# Altium integrated library gecko3-user.IntLib: 46 symbols
Pins are listed as number, name and electrical type; pins without a type are passive.

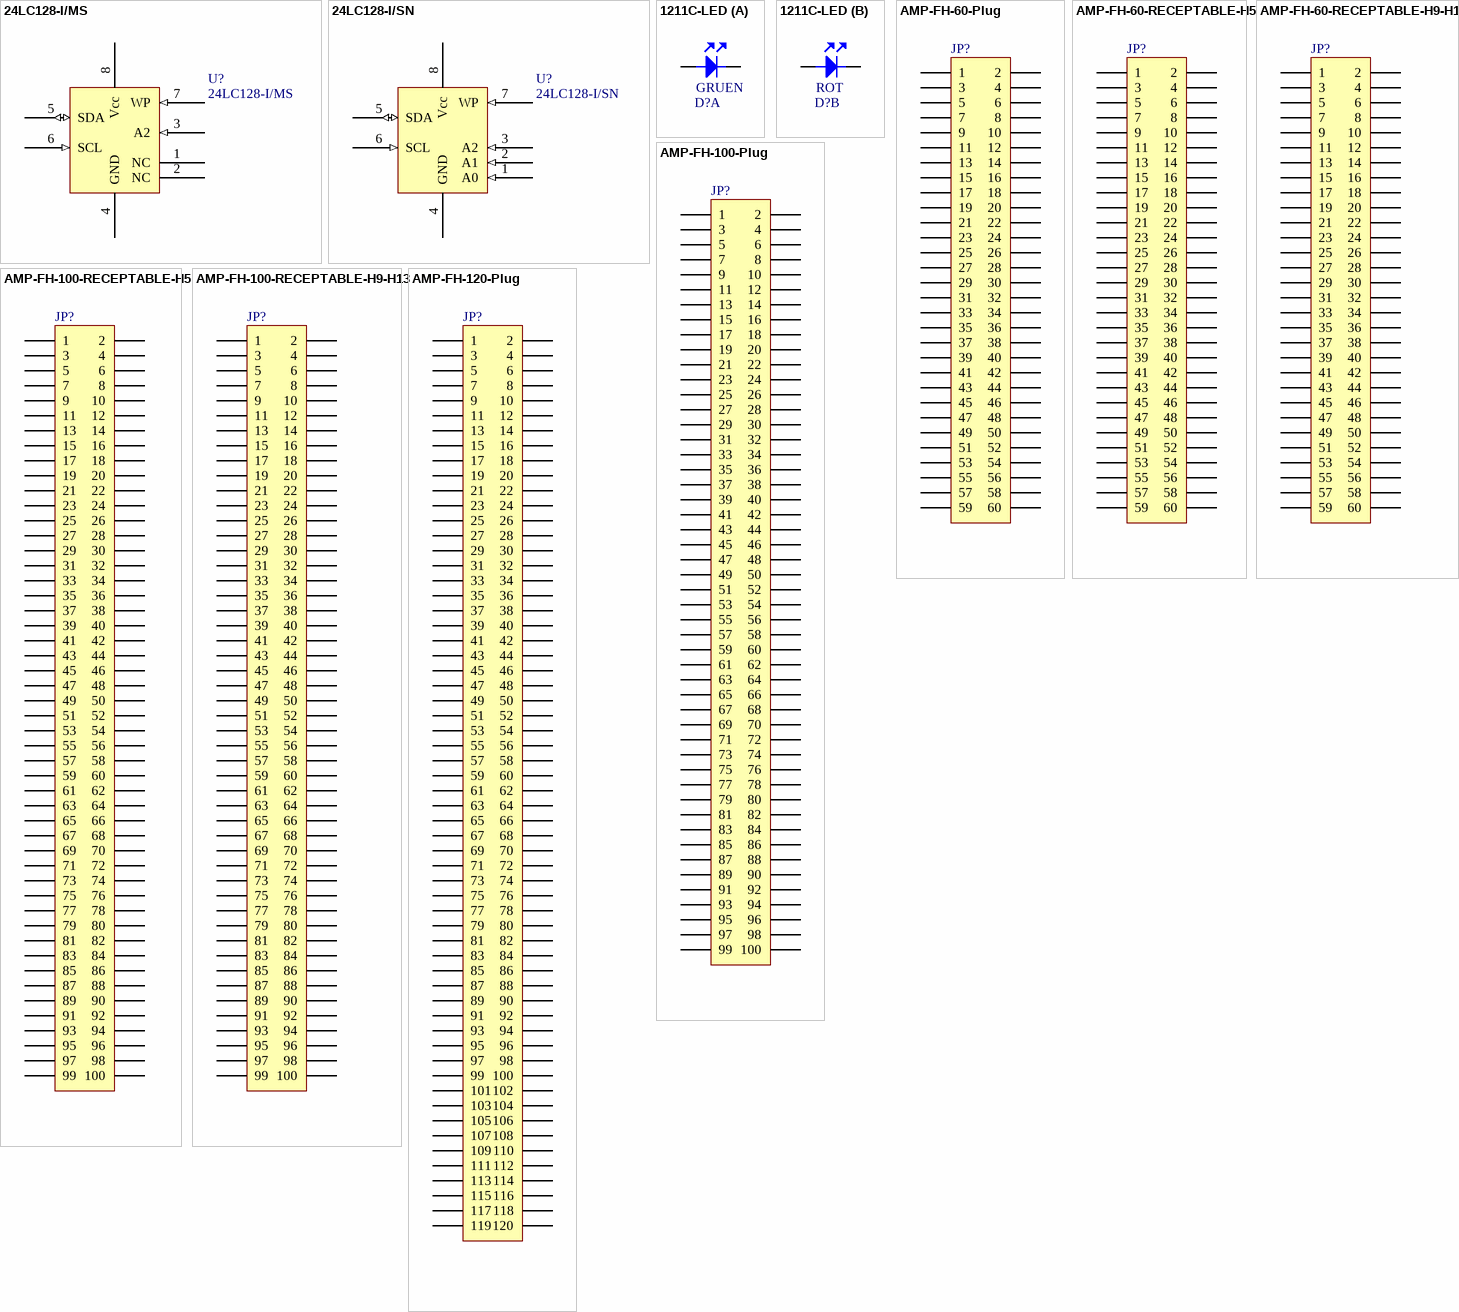
[diagram p0: symbols 24LC128-I/MS to AMP-FH-120-Plug]

## 24LC128-I/MS
designator U?
Value: 24LC128-I/MS
footprint TSSO3X5-G8/X.45
pins: 1 NC, 2 NC, 3 A2 (in), 4 GND (power), 5 SDA (io), 6 SCL (in), 7 WP (in), 8 Vcc (power)

## 24LC128-I/SN
designator U?
Value: 24LC128-I/SN
footprint SO-G8
pins: 1 A0 (in), 2 A1 (in), 3 A2 (in), 4 GND (power), 5 SDA (io), 6 SCL (in), 7 WP (in), 8 Vcc (power)

## 1211C-LED
designator D?
Stanley 1211C Bi-Color Ultra Compact SMT LED; Value: 1211C
footprint stan-led4 (Stanley Duo LED, SMD)
part A pins: 3 A, 4 K
part B pins: 1 A, 2 K
part A text: GRUEN
part B text: ROT

## AMP-FH-60-Plug
designator JP?
AMP Free Height System, 0.8mm, 60 Pin, Plug
signal-integrity model Model Name (Model Description)
footprint amp_FH_.8mm_60pin_plug (AMP Free Height System, 0.8mm, 60 Pin, all Heights, Plug)
pins: 1, 2, 3, 4, 5, 6, 7, 8, 9, 10, 11, 12, 13, 14, 15, 16, 17, 18, 19, 20, 21, 22, 23, 24, 25, 26, 27, 28, 29, 30, 31, 32, 33, 34, 35, 36, 37, 38, 39, 40, 41, 42, 43, 44, 45, 46, 47, 48, 49, 50, 51, 52, 53, 54, 55, 56, 57, 58, 59, 60

## AMP-FH-60-RECEPTABLE-H5
designator JP?
AMP Free Height System, 0.8mm, 60 Pin, 5mm Height, Receptable
signal-integrity model Model Name (Model Description)
footprint amp_FH_.8mm_60pin_r_H5 (AMP Free Height System, 0.8mm, 100 Pin, 5mm Heigth, Receptacle)
pins: 1, 2, 3, 4, 5, 6, 7, 8, 9, 10, 11, 12, 13, 14, 15, 16, 17, 18, 19, 20, 21, 22, 23, 24, 25, 26, 27, 28, 29, 30, 31, 32, 33, 34, 35, 36, 37, 38, 39, 40, 41, 42, 43, 44, 45, 46, 47, 48, 49, 50, 51, 52, 53, 54, 55, 56, 57, 58, 59, 60

## AMP-FH-60-RECEPTABLE-H9-H13
designator JP?
AMP Free Height System, 0.8mm, 60 Pin, 9 or 13mm Height, Receptable
signal-integrity model Model Name (Model Description)
footprint amp_FH_.8mm_60pin_r_H9_H13 (Height System, 0.8mm, 60 Pin, 9 or 13mm Heigth, Receptacle)
pins: 1, 2, 3, 4, 5, 6, 7, 8, 9, 10, 11, 12, 13, 14, 15, 16, 17, 18, 19, 20, 21, 22, 23, 24, 25, 26, 27, 28, 29, 30, 31, 32, 33, 34, 35, 36, 37, 38, 39, 40, 41, 42, 43, 44, 45, 46, 47, 48, 49, 50, 51, 52, 53, 54, 55, 56, 57, 58, 59, 60

## AMP-FH-100-Plug
designator JP?
AMP Free Height System, 0.8mm, 100 Pin, Plug
signal-integrity model Model Name (Model Description)
footprint amp_FH_.8mm_100pin_plug (AMP Free Height System, 0.8mm, 100 Pin, all Heights, Plug)
pins: 1, 2, 3, 4, 5, 6, 7, 8, 9, 10, 11, 12, 13, 14, 15, 16, 17, 18, 19, 20, 21, 22, 23, 24, 25, 26, 27, 28, 29, 30, 31, 32, 33, 34, 35, 36, 37, 38, 39, 40, 41, 42, 43, 44, 45, 46, 47, 48, 49, 50, 51, 52, 53, 54, 55, 56, 57, 58, 59, 60, 61, 62, 63, 64, 65, 66, 67, 68, 69, 70, 71, 72, 73, 74, 75, 76, 77, 78, 79, 80, 81, 82, 83, 84, 85, 86, 87, 88, 89, 90, 91, 92, 93, 94, 95, 96, 97, 98, 99, 100

## AMP-FH-100-RECEPTABLE-H5
designator JP?
AMP Free Height System, 0.8mm, 100 Pin, 5mm Height, Receptable
signal-integrity model Model Name (Model Description)
footprint amp_FH_.8mm_100pin_r_H5 (AMP Free Height System, 0.8mm, 100 Pin, 5mm Heigth, Receptacle)
pins: 1, 2, 3, 4, 5, 6, 7, 8, 9, 10, 11, 12, 13, 14, 15, 16, 17, 18, 19, 20, 21, 22, 23, 24, 25, 26, 27, 28, 29, 30, 31, 32, 33, 34, 35, 36, 37, 38, 39, 40, 41, 42, 43, 44, 45, 46, 47, 48, 49, 50, 51, 52, 53, 54, 55, 56, 57, 58, 59, 60, 61, 62, 63, 64, 65, 66, 67, 68, 69, 70, 71, 72, 73, 74, 75, 76, 77, 78, 79, 80, 81, 82, 83, 84, 85, 86, 87, 88, 89, 90, 91, 92, 93, 94, 95, 96, 97, 98, 99, 100

## AMP-FH-100-RECEPTABLE-H9-H13
designator JP?
AMP Free Height System, 0.8mm, 100 Pin, 9 or 13mm Height, Receptable
signal-integrity model Model Name (Model Description)
footprint amp_FH_.8mm_100pin_r_H9_H13 (AMP Free Height System, 0.8mm, 100 Pin, 9 or 13mm Heigth, Receptacle)
pins: 1, 2, 3, 4, 5, 6, 7, 8, 9, 10, 11, 12, 13, 14, 15, 16, 17, 18, 19, 20, 21, 22, 23, 24, 25, 26, 27, 28, 29, 30, 31, 32, 33, 34, 35, 36, 37, 38, 39, 40, 41, 42, 43, 44, 45, 46, 47, 48, 49, 50, 51, 52, 53, 54, 55, 56, 57, 58, 59, 60, 61, 62, 63, 64, 65, 66, 67, 68, 69, 70, 71, 72, 73, 74, 75, 76, 77, 78, 79, 80, 81, 82, 83, 84, 85, 86, 87, 88, 89, 90, 91, 92, 93, 94, 95, 96, 97, 98, 99, 100

## AMP-FH-120-Plug
designator JP?
AMP Free Height System, 0.8mm, 120 Pin, Plug
signal-integrity model Model Name (Model Description)
footprint amp_FH_.8mm_120pin_plug (AMP Free Height System, 0.8mm, 100 Pin, all Heights, Plug)
pins: 1, 2, 3, 4, 5, 6, 7, 8, 9, 10, 11, 12, 13, 14, 15, 16, 17, 18, 19, 20, 21, 22, 23, 24, 25, 26, 27, 28, 29, 30, 31, 32, 33, 34, 35, 36, 37, 38, 39, 40, 41, 42, 43, 44, 45, 46, 47, 48, 49, 50, 51, 52, 53, 54, 55, 56, 57, 58, 59, 60, 61, 62, 63, 64, 65, 66, 67, 68, 69, 70, 71, 72, 73, 74, 75, 76, 77, 78, 79, 80, 81, 82, 83, 84, 85, 86, 87, 88, 89, 90, 91, 92, 93, 94, 95, 96, 97, 98, 99, 100, 101, 102, 103, 104, 105, 106, 107, 108, 109, 110, 111, 112, 113, 114, 115, 116, 117, 118, 119, 120

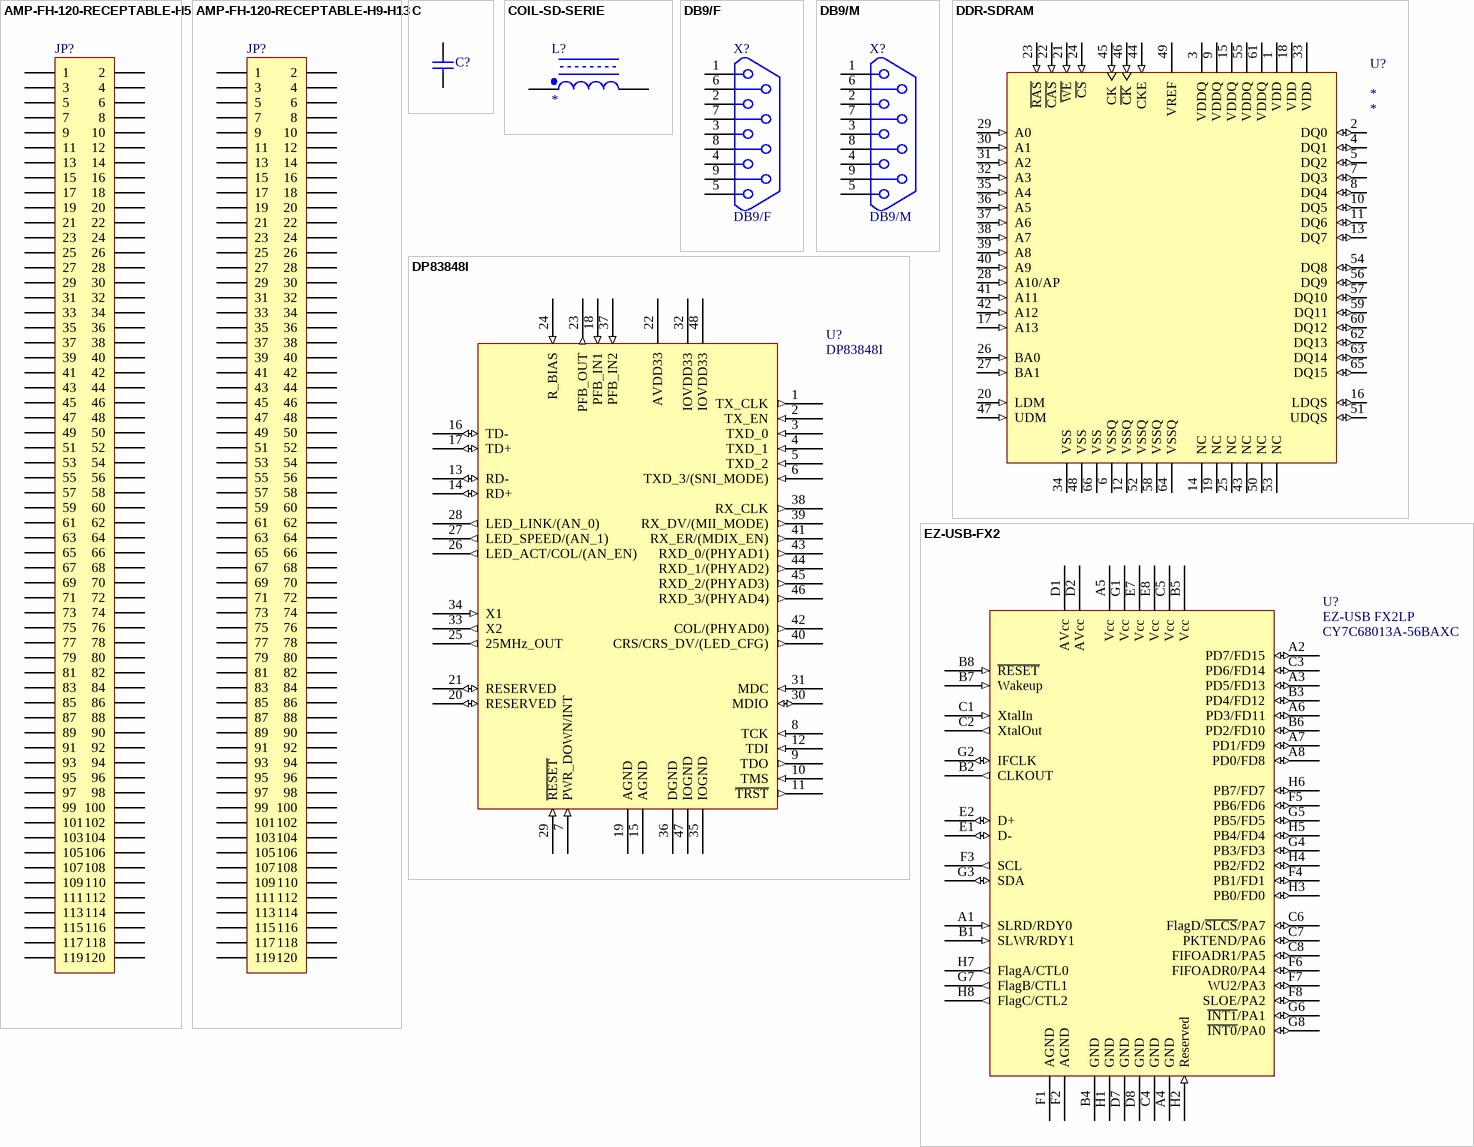
[diagram p1: symbols AMP-FH-120-RECEPTABLE-H5 to EZ-USB-FX2]

## AMP-FH-120-RECEPTABLE-H5
designator JP?
AMP Free Height System, 0.8mm, 120 Pin, 5mm Height, Receptable
signal-integrity model Model Name (Model Description)
footprint amp_FH_.8mm_120pin_r_H5 (AMP Free Height System, 0.8mm, 120 Pin, 5mm Heigth, Receptacle)
pins: 1, 2, 3, 4, 5, 6, 7, 8, 9, 10, 11, 12, 13, 14, 15, 16, 17, 18, 19, 20, 21, 22, 23, 24, 25, 26, 27, 28, 29, 30, 31, 32, 33, 34, 35, 36, 37, 38, 39, 40, 41, 42, 43, 44, 45, 46, 47, 48, 49, 50, 51, 52, 53, 54, 55, 56, 57, 58, 59, 60, 61, 62, 63, 64, 65, 66, 67, 68, 69, 70, 71, 72, 73, 74, 75, 76, 77, 78, 79, 80, 81, 82, 83, 84, 85, 86, 87, 88, 89, 90, 91, 92, 93, 94, 95, 96, 97, 98, 99, 100, 101, 102, 103, 104, 105, 106, 107, 108, 109, 110, 111, 112, 113, 114, 115, 116, 117, 118, 119, 120

## AMP-FH-120-RECEPTABLE-H9-H13
designator JP?
AMP Free Height System, 0.8mm, 120 Pin, 9 or 13mm Height, Receptable
signal-integrity model Model Name (Model Description)
footprint amp_FH_.8mm_120pin_r_H9_H13 (AMP Free Height System, 0.8mm, 120 Pin, 9 or 13mm Heigth, Receptacle)
pins: 1, 2, 3, 4, 5, 6, 7, 8, 9, 10, 11, 12, 13, 14, 15, 16, 17, 18, 19, 20, 21, 22, 23, 24, 25, 26, 27, 28, 29, 30, 31, 32, 33, 34, 35, 36, 37, 38, 39, 40, 41, 42, 43, 44, 45, 46, 47, 48, 49, 50, 51, 52, 53, 54, 55, 56, 57, 58, 59, 60, 61, 62, 63, 64, 65, 66, 67, 68, 69, 70, 71, 72, 73, 74, 75, 76, 77, 78, 79, 80, 81, 82, 83, 84, 85, 86, 87, 88, 89, 90, 91, 92, 93, 94, 95, 96, 97, 98, 99, 100, 101, 102, 103, 104, 105, 106, 107, 108, 109, 110, 111, 112, 113, 114, 115, 116, 117, 118, 119, 120

## C
designator C?
footprint c-r5 (Condensator spacing 5mm)
pins: 1, 2

## CC License
designator ?
footprint CC-License

## COIL-SD-SERIE
designator L?, comment SD*  (value not drawn)
SD Series Coils from Coiltronics; Value: *
footprint coil-sd-serie (SD Series Coils from Coiltronics)
pins: 1, 2

## DB9/F
designator X?
footprint DSUB9RA/F (DB9 female connector)
pins: 1, 2, 3, 4, 5, 6, 7, 8, 9

## DB9/M
designator X?
footprint DB9RA/M
pins: 1, 2, 3, 4, 5, 6, 7, 8, 9

## DDR-SDRAM
designator U?
general model for ddr sdram's; Value: *; vendor: *
footprint TSOP66
signal-integrity model micron
pins: 1 VDD (power), 2 DQ0 (io), 3 VDDQ (power), 4 DQ1 (io), 5 DQ2 (io), 6 VSSQ (power), 7 DQ3 (io), 8 DQ4 (io), 9 VDDQ (power), 10 DQ5 (io), 11 DQ6 (io), 12 VSSQ (power), 13 DQ7 (io), 14 NC, 15 VDDQ (power), 16 LDQS (io), 17 A13 (in), 18 VDD (power), 19 NC, 20 LDM (in), 21 ~{WE} (in), 22 ~{CAS} (in), 23 ~{RAS} (in), 24 ~{CS} (in), 25 NC, 26 BA0 (in), 27 BA1 (in), 28 A10/AP (in), 29 A0 (in), 30 A1 (in), 31 A2 (in), 32 A3 (in), 33 VDD (power), 34 VSS (power), 35 A4 (in), 36 A5 (in), 37 A6 (in), 38 A7 (in), 39 A8 (in), 40 A9 (in), 41 A11 (in), 42 A12 (in), 43 NC, 44 CKE (in), 45 CK (in), 46 ~{CK} (in), 47 UDM (in), 48 VSS (power), 49 VREF (power), 50 NC, 51 UDQS (io), 52 VSSQ (power), 53 NC, 54 DQ8 (io), 55 VDDQ (power), 56 DQ9 (io), 57 DQ10 (io), 58 VSSQ (power), 59 DQ11 (io), 60 DQ12 (io), 61 VDDQ (power), 62 DQ13 (io), 63 DQ14 (io), 64 VSSQ (power), 65 DQ15 (io), 66 VSS (power)

## DP83848I
designator U?  value DP83848I
Single Port 10/100 Mb/s Ethernet Physical Layer Transceiver
footprint F-QFP7X7-G48/N
signal-integrity model Model Name (Model Description)
pins: 1 TX_CLK (out), 2 TX_EN (in), 3 TXD_0 (in), 4 TXD_1 (in), 5 TXD_2 (in), 6 TXD_3/(SNI_MODE) (in), 7 PWR_DOWN/INT (in), 8 TCK (in), 9 TDO (out), 10 TMS (in), 11 ~{TRST} (out), 12 TDI (in), 13 RD- (io), 14 RD+ (io), 15 AGND (power), 16 TD- (io), 17 TD+ (io), 18 PFB_IN1 (in), 19 AGND (power), 20 RESERVED (io), 21 RESERVED (io), 22 AVDD33 (power), 23 PFB_OUT (out), 24 R_BIAS (in), 25 25MHz_OUT (out), 26 LED_ACT/COL/(AN_EN) (out), 27 LED_SPEED/(AN_1) (out), 28 LED_LINK/(AN_0) (out), 29 ~{RESET} (in), 30 MDIO (io), 31 MDC (in), 32 IOVDD33 (power), 33 X2 (out), 34 X1 (in), 35 IOGND (power), 36 DGND (power), 37 PFB_IN2 (in), 38 RX_CLK (out), 39 RX_DV/(MII_MODE) (out), 40 CRS/CRS_DV/(LED_CFG) (out), 41 RX_ER/(MDIX_EN) (out), 42 COL/(PHYAD0) (out), 43 RXD_0/(PHYAD1) (out), 44 RXD_1/(PHYAD2) (out), 45 RXD_2/(PHYAD3) (out), 46 RXD_3/(PHYAD4) (out), 47 IOGND (power), 48 IOVDD33 (power)

## EZ-USB-FX2
designator U?, comment EZ-USB FX2LP  value CY7C68013A-56BAXC
footprint BGA5x5
pins: A1 SLRD/RDY0 (in), A2 PD7/FD15 (io), A3 PD5/FD13 (io), A4 GND (power), A5 Vcc (power), A6 PD3/FD11 (io), A7 PD1/FD9 (io), A8 PD0/FD8 (io), B1 SLWR/RDY1 (in), B2 CLKOUT (out), B3 PD4/FD12 (io), B4 GND (power), B5 Vcc (power), B6 PD2/FD10 (io), B7 Wakeup (in), B8 ~{RESET} (in), C1 XtalIn (in), C2 XtalOut (out), C3 PD6/FD14 (io), C4 GND (power), C5 Vcc (power), C6 FlagD/~{SLCS}/PA7 (io), C7 PKTEND/PA6 (io), C8 FIFOADR1/PA5 (io), D1 AVcc (power), D2 AVcc (power), D7 GND (power), D8 GND (power), E1 D- (io), E2 D+ (io), E7 Vcc (power), E8 Vcc (power), F1 AGND (power), F2 AGND (power), F3 SCL (out), F4 PB1/FD1 (io), F5 PB6/FD6 (io), F6 FIFOADR0/PA4 (io), F7 WU2/PA3 (io), F8 SLOE/PA2 (io), G1 Vcc (power), G2 IFCLK (io), G3 SDA (io), G4 PB3/FD3 (io), G5 PB5/FD5 (io), G6 ~{INT1}/PA1 (io), G7 FlagB/CTL1 (out), G8 ~{INT0}/PA0 (io), H1 GND (power), H2 Reserved (in), H3 PB0/FD0 (io), H4 PB2/FD2 (io), H5 PB4/FD4 (io), H6 PB7/FD7 (io), H7 FlagA/CTL0 (out), H8 FlagC/CTL2 (out)

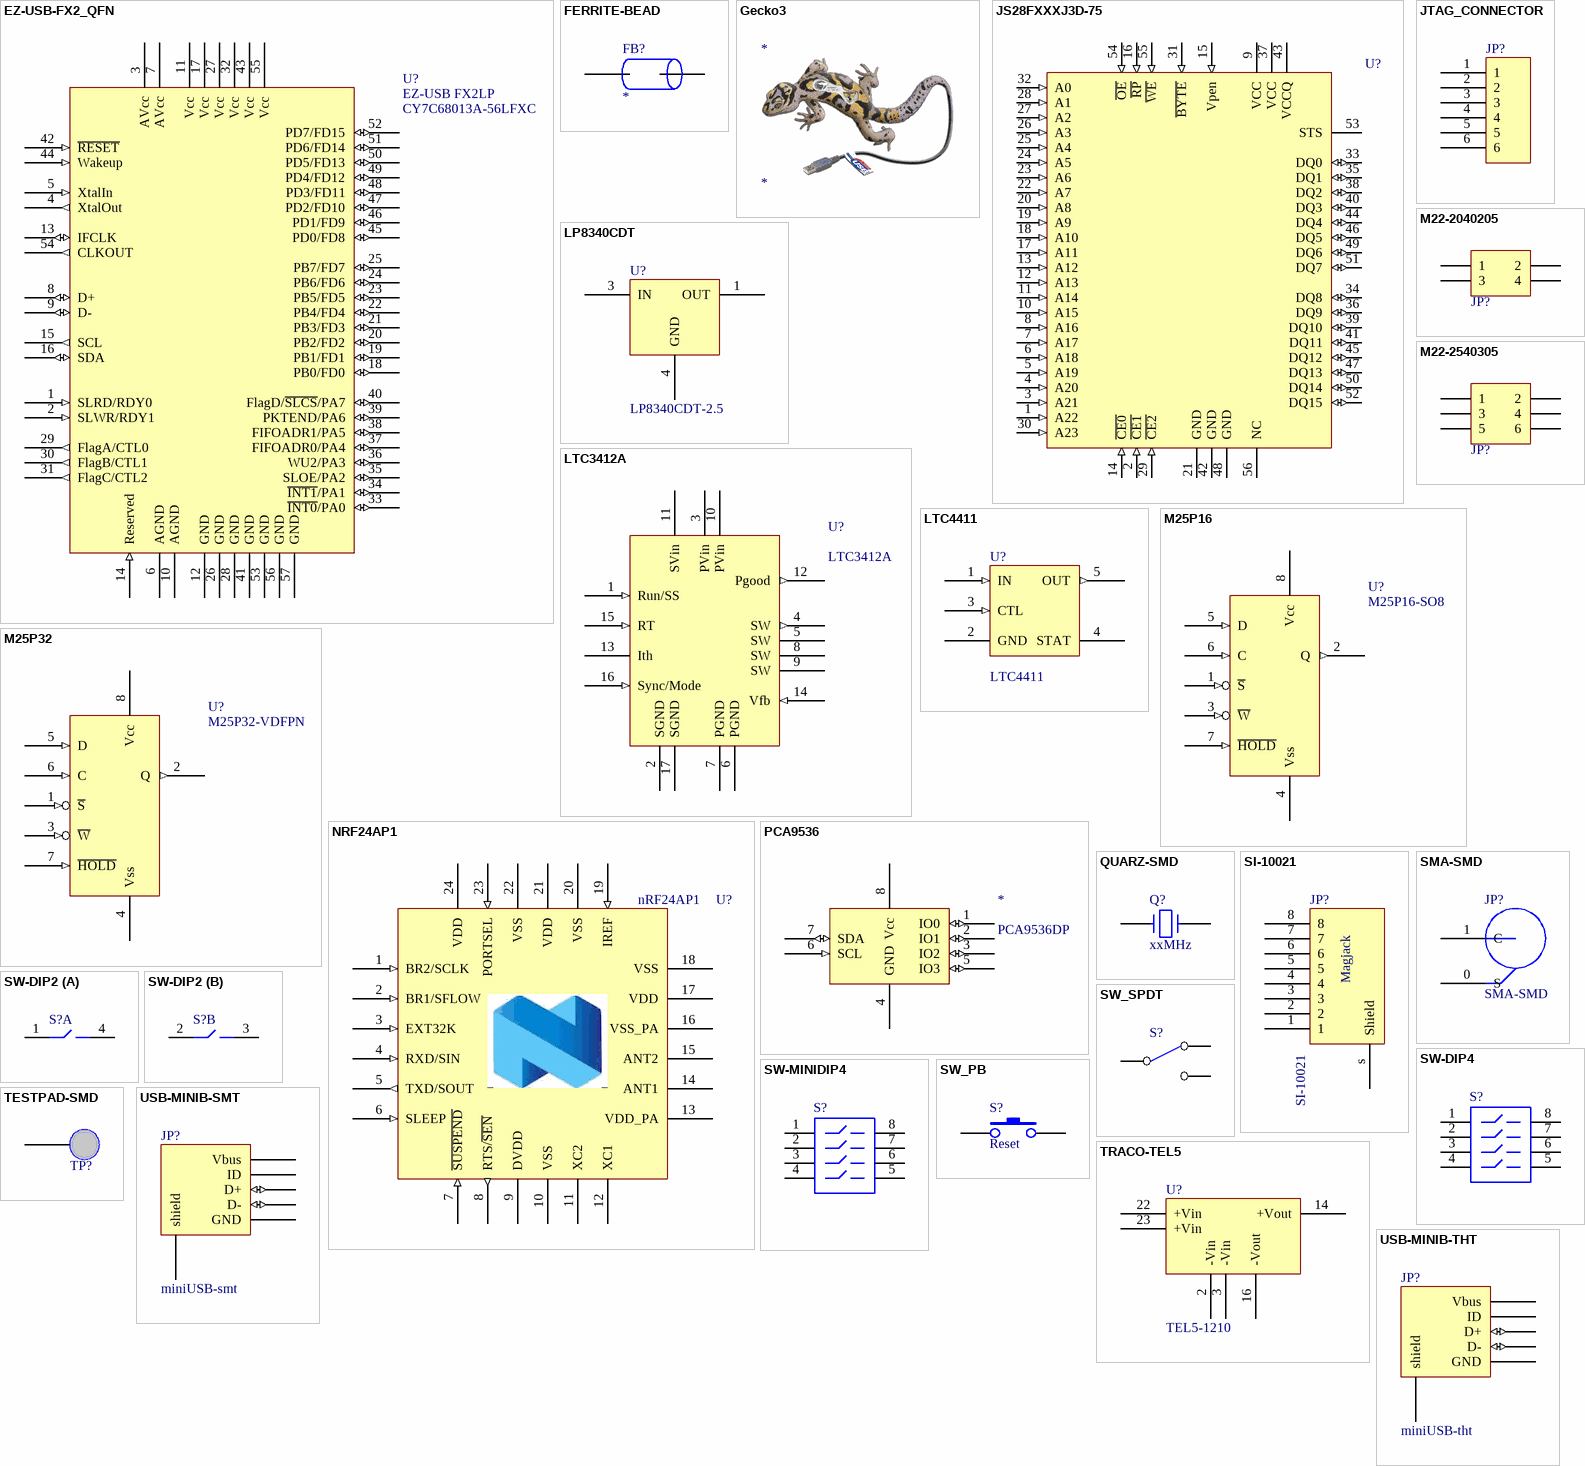
[diagram p2: symbols EZ-USB-FX2_QFN to USB-MINIB-THT]

## EZ-USB-FX2_QFN
designator U?, comment EZ-USB FX2LP  value CY7C68013A-56LFXC
footprint QFN8x8
pins: 1 SLRD/RDY0 (in), 2 SLWR/RDY1 (in), 3 AVcc (power), 4 XtalOut (out), 5 XtalIn (in), 6 AGND (power), 7 AVcc (power), 8 D+ (io), 9 D- (io), 10 AGND (power), 11 Vcc (power), 12 GND (power), 13 IFCLK (io), 14 Reserved (in), 15 SCL (out), 16 SDA (io), 17 Vcc (power), 18 PB0/FD0 (io), 19 PB1/FD1 (io), 20 PB2/FD2 (io), 21 PB3/FD3 (io), 22 PB4/FD4 (io), 23 PB5/FD5 (io), 24 PB6/FD6 (io), 25 PB7/FD7 (io), 26 GND (power), 27 Vcc (power), 28 GND (power), 29 FlagA/CTL0 (out), 30 FlagB/CTL1 (out), 31 FlagC/CTL2 (out), 32 Vcc (power), 33 ~{INT0}/PA0 (io), 34 ~{INT1}/PA1 (io), 35 SLOE/PA2 (io), 36 WU2/PA3 (io), 37 FIFOADR0/PA4 (io), 38 FIFOADR1/PA5 (io), 39 PKTEND/PA6 (io), 40 FlagD/~{SLCS}/PA7 (io), 41 GND (power), 42 ~{RESET} (in), 43 Vcc (power), 44 Wakeup (in), 45 PD0/FD8 (io), 46 PD1/FD9 (io), 47 PD2/FD10 (io), 48 PD3/FD11 (io), 49 PD4/FD12 (io), 50 PD5/FD13 (io), 51 PD6/FD14 (io), 52 PD7/FD15 (io), 53 GND (power), 54 CLKOUT (out), 55 Vcc (power), 56 GND (power), 57 GND (power)

## FERRITE-BEAD
designator FB?
Value: *
footprint CC1608-0603
pins: 1, 2

## Gecko3
designator *
GECKO3
footprint GECKO3 (Gecko Logo)

## JS28FXXXJ3D-75
designator U?
footprint TSSO14X20-G56
pins: 1 A22 (in), 2 ~{CE1} (in), 3 A21 (in), 4 A20 (in), 5 A19 (in), 6 A18 (in), 7 A17 (in), 8 A16 (in), 9 VCC (power), 10 A15 (in), 11 A14 (in), 12 A13 (in), 13 A12 (in), 14 ~{CE0} (in), 15 Vpen (in), 16 ~{RP} (in), 17 A11 (in), 18 A10 (in), 19 A9 (in), 20 A8 (in), 21 GND (power), 22 A7 (in), 23 A6 (in), 24 A5 (in), 25 A4 (in), 26 A3 (in), 27 A2 (in), 28 A1 (in), 29 ~{CE2} (in), 30 A23 (in), 31 ~{BYTE} (in), 32 A0 (in), 33 DQ0 (io), 34 DQ8 (io), 35 DQ1 (io), 36 DQ9 (io), 37 VCC (power), 38 DQ2 (io), 39 DQ10 (io), 40 DQ3 (io), 41 DQ11 (io), 42 GND (power), 43 VCCQ (power), 44 DQ4 (io), 45 DQ12 (io), 46 DQ5 (io), 47 DQ13 (io), 48 GND (power), 49 DQ6 (io), 50 DQ14 (io), 51 DQ7 (io), 52 DQ15 (io), 53 STS (oc), 54 ~{OE} (in), 55 ~{WE} (in), 56 NC

## JTAG_CONNECTOR
designator JP?, comment Header 6H  (value not drawn)
Header, 6-Pin,  Right Angle
footprint HDR1X6H-90°
pins: 1, 2, 3, 4, 5, 6

## LP8340CDT
designator U?  value LP8340CDT-2.5
Low Dropout, Low IQ, 1.0A CMOS Linear Regulator
footprint TO-252
pins: 1 OUT (power), 3 IN (power), 4 GND (power)

## LTC3412A
designator U?  value LTC3412A
3 A, 4 MHz, Step-Down Regulator
footprint QFN16
pins: 1 Run/SS (in), 2 SGND (power), 3 PVin (power), 4 SW (out), 5 SW, 6 PGND (power), 7 PGND (power), 8 SW, 9 SW, 10 PVin (power), 11 SVin (power), 12 Pgood (out), 13 Ith, 14 Vfb (in), 15 RT (in), 16 Sync/Mode (in), 17 SGND (power)

## LTC4411
designator U?  value LTC4411
footprint TSOP-23-5
pins: 1 IN (in), 2 GND (power), 3 CTL (in), 4 STAT (oc), 5 OUT (out)

## M22-2040205
designator JP?
VALUE: M22-2040205
footprint M22-2040205 (Harwin 2mm horizontal connector 2x2 pin)
signal-integrity model Model Name (Model Description)
pins: 1, 2, 3, 4

## M22-2540305
designator JP?
VALUE: M22-2540305
footprint M22-2540305 (Harwin 2mm horizontal connector 2x3 pin)
signal-integrity model Model Name (Model Description)
pins: 1, 2, 3, 4, 5, 6

## M25P16
designator U?  value M25P16-SO8  (hidden comment: M25P16)
Serial Flash Memory, Low Voltage, 50 MHz SPI Bus
footprint SO8W
pins: 1 ~{S} (in), 2 Q (out), 3 ~{W} (in), 4 Vss (power), 5 D (in), 6 C (in), 7 ~{HOLD} (in), 8 Vcc (power)

## M25P32
designator U?  value M25P32-VDFPN  (hidden comment: M25P32)
Serial Flash Memory, Low Voltage, 50 MHz SPI Bus
footprint VDFPN8 (VDFPN8, 8-Leads, Very thin Dual Flat Package Body 8.0x6.0mm (max), Pitch 1.27mm, IPC Medium Density)
pins: 1 ~{S} (in), 2 Q (out), 3 ~{W} (in), 4 Vss (power), 5 D (in), 6 C (in), 7 ~{HOLD} (in), 8 Vcc (power)

## NRF24AP1
designator U?  value nRF24AP1
Nordic 2.4 GHz Transceiver with ANT
footprint QFN24
pins: 1 BR2/SCLK (in), 2 BR1/SFLOW (in), 3 EXT32K (in), 4 RXD/SIN (in), 5 TXD/SOUT (out), 6 SLEEP (in), 7 ~{SUSPEND} (in), 8 RTS/~{SEN} (out), 9 DVDD, 10 VSS (power), 11 XC2, 12 XC1, 13 VDD_PA (power), 14 ANT1, 15 ANT2, 16 VSS_PA (power), 17 VDD (power), 18 VSS (power), 19 IREF (in), 20 VSS (power), 21 VDD (power), 22 VSS (power), 23 PORTSEL (in), 24 VDD (power)

## PCA9536
designator *  value PCA9536DP
4-bit I2C I/O Port
footprint TSSO3X6-G8/X.3
pins: 1 IO0 (io), 2 IO1 (io), 3 IO2 (io), 4 GND (power), 5 IO3 (io), 6 SCL (in), 7 SDA (io), 8 Vcc (power)

## QUARZ-SMD
designator Q?  value xxMHz
SMD Quarz in the AT49 Case, like the ABLS series from Abracon
footprint AT49 (Crystal, Low Profile SMT)
pins: 1, 2

## SI-10021
designator JP?
MagJack from Bel Stewart, single port RJ45 with magnetics, without LED's; Value: SI-10021
footprint SI-10021 (MagJack from Bel Stewart, single port RJ45 with magnetics, without LED's)
pins: 1, 2, 3, 4, 5, 6, 7, 8, s Shield
text: Magjack

## SMA-SMD
designator JP?
Rosenberger SMD SMA HF Connector
footprint sma-32k243-40ME3 (Rosenberger SMD SMA HF Connector)
signal-integrity model Model Name (Model Description)
pins: 0 S, 1 C

## SW-DIP2
designator S?
footprint MINIDIP2 (2 Way Dip Switch, 1,27 mm Spacing)
part A pins: 1, 4
part B pins: 2, 3

## SW-DIP4
designator S?  (value not drawn)
footprint DIP4
pins: 1, 2, 3, 4, 5, 6, 7, 8

## SW-MINIDIP4
designator S?
footprint minidip4
pins: 1, 2, 3, 4, 5, 6, 7, 8

## SW_PB
designator S?  Comment_1: Reset
footprint FSM (Printtaster 3,5x6mm, FSM Alcoswitch)
pins: 1, 2

## SW_SPDT
designator S?
pins: 1 COMMON, 2 NC, 3 NO

## TESTPAD-SMD
designator TP?
Harwin SMD Testpad; Value: S1751-46R
footprint TESTPAD-SMD (SMD Testpad)
pins: 1 "Testpad"

## TRACO-TEL5
designator U?  value TEL5-1210  (hidden comment: TRACO-TEL5)
TRACO DC/DC Converter TEL5 Series
footprint TRACO-TEL5 (DC/DC Converter Serie TEL5 from Traco Power)
pins: 2 -Vin (power), 3 -Vin (power), 14 +Vout (power), 16 -Vout (power), 22 +Vin (power), 23 +Vin (power)

## USB-MINIB-SMT
designator JP?  value miniUSB-smt
signal-integrity model Model Name (Model Description)
footprint USB_MINI_B_SMD
pins: D+ (io), D- (io), GND (power), ID, shield, Vbus (power)

## USB-MINIB-THT
designator JP?  value miniUSB-tht
footprint USB-miniB (Molex USB mini B Receptable)
signal-integrity model Model Name (Model Description)
pins: D+ (io), D- (io), GND (power), ID, shield, Vbus (power)